# EAGLE library part Q_CD4067B (library MRDT-2014-All)
Differential 8:1 Multiplexer
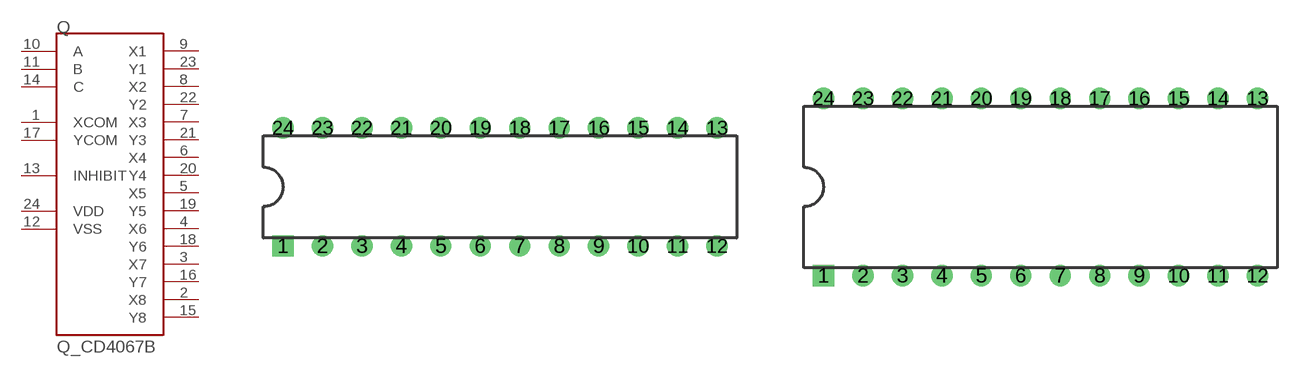
[diagram p15: symbol with the pads of DIP24; footprints DIP24, WDIP24]

Designator prefix Q

## Q_CD4067BWRONG  [DIP24]
1  XCOM
2  X8
3  X7
4  X6
5  X5
6  X4
7  X3
8  X2
9  X1
10  A
11  B
12  VSS
13  INHIBIT
14  C
15  Y8
16  Y7
17  YCOM
18  Y6
19  Y5
20  Y4
21  Y3
22  Y2
23  Y1
24  VDD

## Q_CD4067BRIGHT  [WDIP24]
Pads as for DIP24

## Footprint DIP24 (pad centres in mm)
drill 0.864 square: 1 -16.51,-3.81
drill 0.864: 2 -13.97,-3.81; 3 -11.43,-3.81; 4 -8.89,-3.81; 5 -6.35,-3.81; 6 -3.81,-3.81; 7 -1.27,-3.81; 8 1.27,-3.81; 9 3.81,-3.81; 10 6.35,-3.81; 11 8.89,-3.81; 12 11.43,-3.81; 13 11.43,3.81; 14 8.89,3.81; 15 6.35,3.81; 16 3.81,3.81; 17 1.27,3.81; 18 -1.27,3.81; 19 -3.81,3.81; 20 -6.35,3.81; 21 -8.89,3.81; 22 -11.43,3.81; 23 -13.97,3.81; 24 -16.51,3.81

## Footprint WDIP24 (pad centres in mm)
drill 0.864 square: 1 -13.97,-5.715
drill 0.864: 2 -11.43,-5.715; 3 -8.89,-5.715; 4 -6.35,-5.715; 5 -3.81,-5.715; 6 -1.27,-5.715; 7 1.27,-5.715; 8 3.81,-5.715; 9 6.35,-5.715; 10 8.89,-5.715; 11 11.43,-5.715; 12 13.97,-5.715; 13 13.97,5.715; 14 11.43,5.715; 15 8.89,5.715; 16 6.35,5.715; 17 3.81,5.715; 18 1.27,5.715; 19 -1.27,5.715; 20 -3.81,5.715; 21 -6.35,5.715; 22 -8.89,5.715; 23 -11.43,5.715; 24 -13.97,5.715